# EAGLE library part TPCA8128 (library vacha)
P-Channel PowerTrench® MOSFET Source: FDD4141.pdf
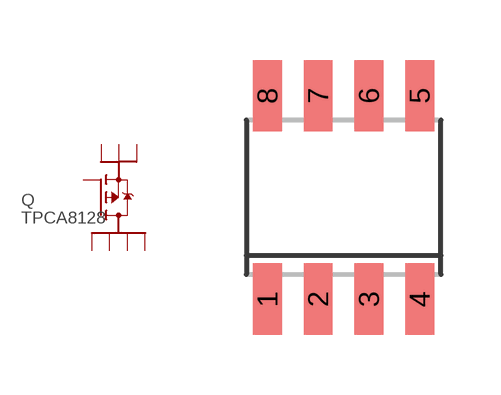
[diagram p1: symbol with the pads of SO08-IRF; footprint SO08-IRF]

Designator prefix Q

## TPCA8128SO8  [SO08-IRF]
1  S0  pas
2  S1  pas
3  S2  pas
4  G  pas
5  D0  pas
6  D1  pas
7  D2  pas
8  D3  pas

## Footprint SO08-IRF (pad centres in mm)
SO8 Source: http://www.irf.com/product-info/datasheets/data/irf7389.pdf
smd 0.72 x 1.78: 1 -1.905,-2.543; 2 -0.635,-2.543; 3 0.635,-2.543; 4 1.905,-2.543; 5 1.905,2.543; 6 0.635,2.543; 7 -0.635,2.543; 8 -1.905,2.543